# Altium schematic symbol library CAP,Cer,47pF,50VDC,C0G,Radial.Schlib: 1 symbol
Pins are listed as number, name and electrical type; pins without a type are passive.

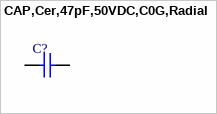
[diagram p0: symbol CAP,Cer,47pF,50VDC,C0G,Radial]

## CAP,Cer,47pF,50VDC,C0G,Radial
designator C?
pins: 1, 2